# Altium footprint library TPI_time_timer.PcbLib: 36 footprints (part 1 of 3)
Each footprint in its own frame and in the unit in brackets; x right, y up, seen from the top. Pads: shape width x height; smd on the part's side, far side on the other; paste and mask are expansions set on the pad; w line width, h text height; cw(c..) or ccw(c..) is an arc to the next point about the centre after c.
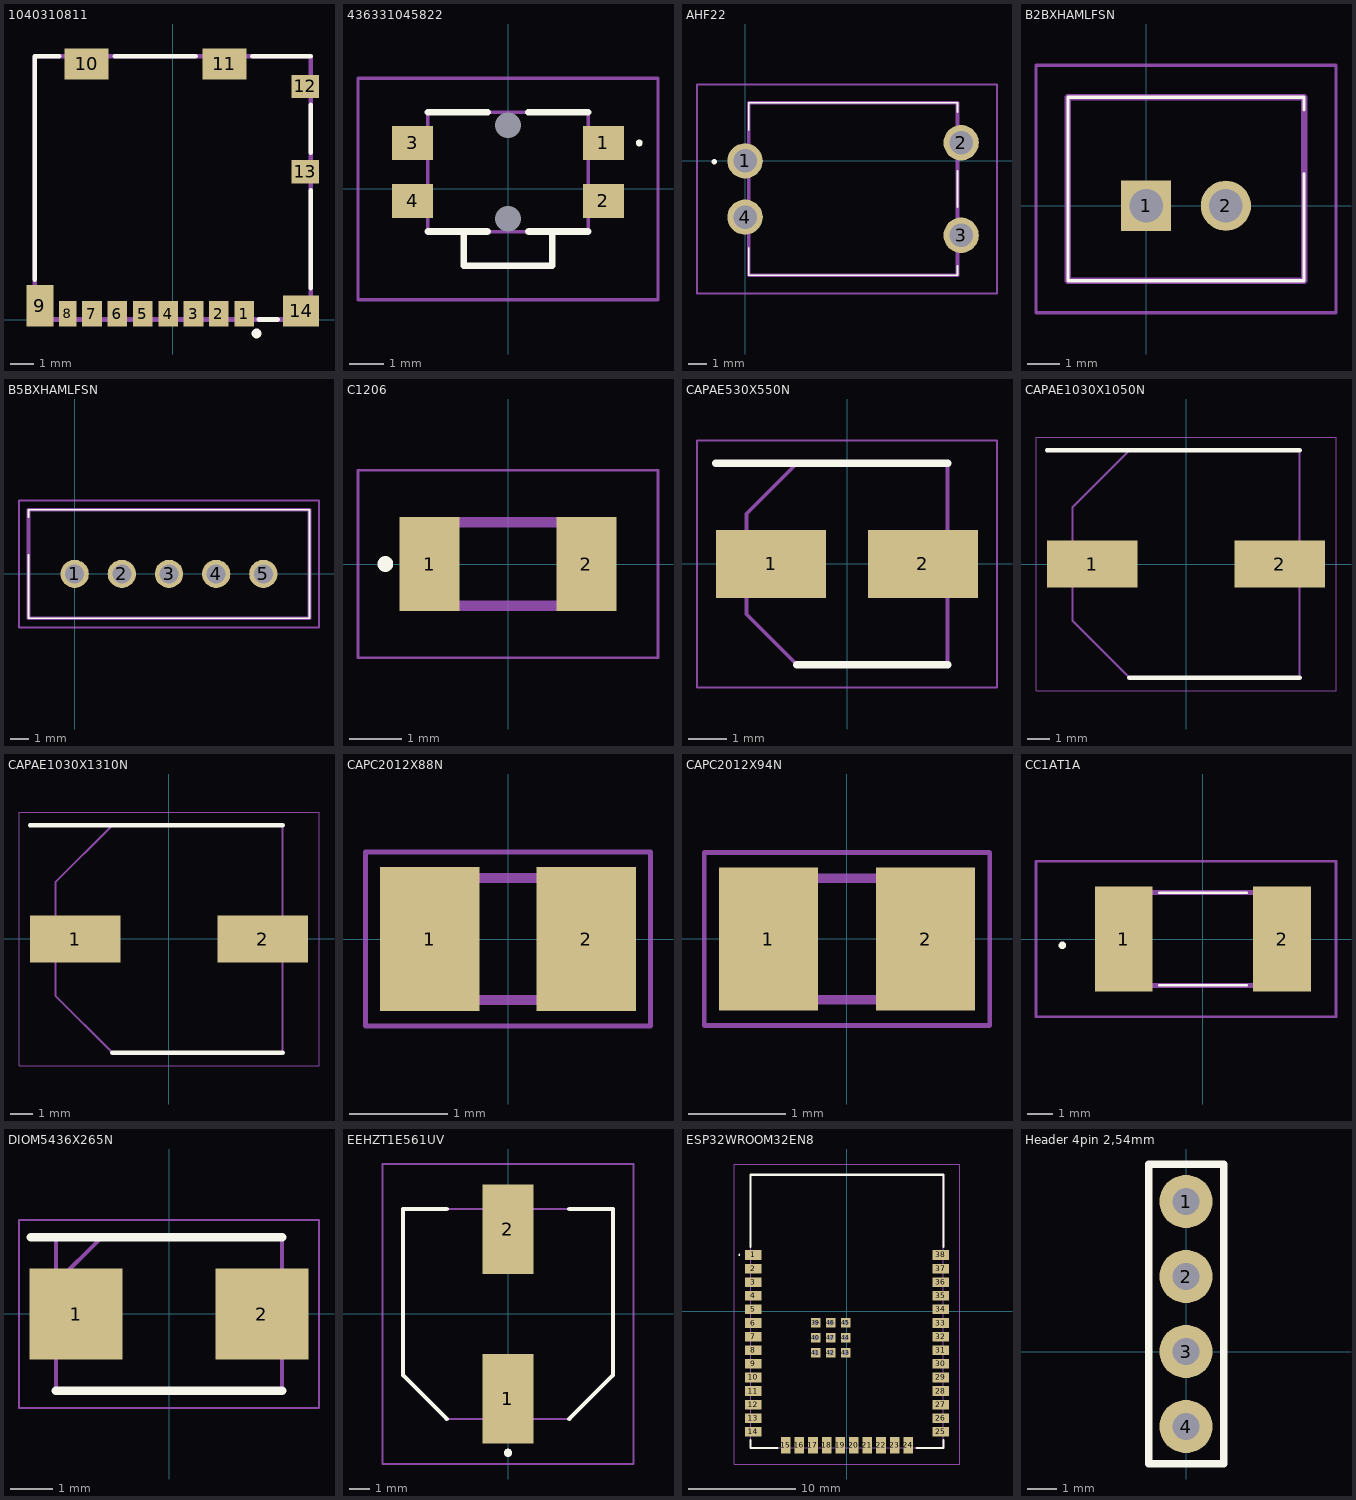
[diagram p0: the footprints below, top view; thin cyan lines are the x and y axes]

## 1040310811 [mm]
pads (14):
  rect 0.85x1.1 smd: 1(3.105,0.25) 2(2.005,0.25) 3(0.905,0.25) 4(-0.195,0.25) 5(-1.295,0.25) 6(-2.395,0.25) 7(-3.495,0.25)
  rect 0.75x1.1 smd: 8(-4.545,0.25)
  rect 1.17x1.8 smd: 9(-5.755,0.6)
  rect 1.9x1.35 smd: 10(-3.73,11.075) 11(2.24,11.075)
  rect 1.2x1 smd: 12(5.74,10.1) 13(5.74,6.4)
  rect 1.55x1.35 smd: 14(5.565,0.375)
Top Overlay:
  circle w0.2: c3.634,-0.605 r0.113
  lines w0.2: -5.975,1.721 -5.975,11.4 -4.914,11.4 ; -2.5,11.4 1,11.4 ; 3.455,11.4 5.975,11.4 ; 3.739,0 4.56,0 ; 5.975,1.367 5.975,5.601 ; 5.975,7.216 5.975,9.297
Mechanical 13:
  lines w0.2: -5.975,0 5.975,0 5.975,11.4 -5.975,11.4 -5.975,0
3D body "104031-0811.stp": height 1.45, standoff 0, extent -5.975,-0.043 5.975,11.357

## 436331045822 [mm]
pads (6):
  rect 1.2x1 smd: 1(2.8,1.35) 2(2.8,-0.35) 3(-2.8,1.35) 4(-2.8,-0.35)
  round 0.375 hole 0.75 unplated: MH1(0,1.875) MH2(0,-0.875)
Top Overlay:
  lines w0.1: 3.8,1.35 cw(c3.85,1.35) 3.9,1.35 cw(c3.85,1.35) 3.8,1.35
  lines w0.2: -2.35,-1.25 -0.6,-1.25 ; -2.35,2.25 -0.6,2.25 ; -1.3,-1.25 -1.3,-2.25 1.3,-2.25 1.3,-1.25 ; 0.6,-1.25 2.35,-1.25 ; 0.6,2.25 2.35,2.25
Mechanical 13:
  lines w0.1: -1.3,-1.25 -1.3,-2.25 1.3,-2.25 1.3,-1.25 ; -2.35,-1.25 -2.35,2.25 2.35,2.25 2.35,-1.25 -2.35,-1.25
Mechanical 15:
  lines w0.1: -4.4,-3.25 -4.4,3.25 4.4,3.25 4.4,-3.25 -4.4,-3.25
3D body "436331045822.stp": height 1.65, standoff -0.5, extent -3.2,-2.369 3.2,2.131

## AHF22 [mm]
pads (4):
  round 1.95 hole 1.3: 1(0,0) 2(11.9,1) 3(11.9,-4.1) 4(0,-3.1)
Top Overlay:
  lines w0.1: 0.2,-6.3 11.7,-6.3 ; 0.2,-6.3 11.7,-6.3 ; 0.2,-6.3 0.2,-4.8 0.2,-6.3 ; 0.2,3.2 11.7,3.2 ; 0.2,3.2 11.7,3.2 ; 0.2,3.2 0.2,1.7 0.2,3.2 ; 11.7,-6.3 11.7,-5.8 11.7,-6.3 ; 11.7,3.2 11.7,2.7 11.7,3.2 ; 11.7,-2.55 11.7,-0.55 11.7,-2.55
  lines w0.2: -1.75,-0.05 cw(c-1.7,-0.05) -1.65,-0.05 ; -1.75,-0.05 ccw(c-1.7,-0.05) -1.65,-0.05 ; -1.75,-0.05 cw(c-1.7,-0.05) -1.65,-0.05
Mechanical 13:
  lines w0.2: 0.2,-6.3 0.2,3.2 11.7,3.2 11.7,-6.3 0.2,-6.3
Mechanical 15:
  lines w0.1: -2.65,-7.3 -2.65,4.2 13.875,4.2 13.875,-7.3 -2.65,-7.3
3D body "AHF22.stp": height 9.4, standoff -5, extent -0.55,-6.3 12.45,3.2

## B2BXHAMLFSN [mm]
pads (3):
  rect 1.575x1.575 hole 1.05: 1(0,0)
  round 1.575 hole 1.05: 2(2.5,0)
  round 0 all layers, no hole: MH1(4.1,2)
Top Overlay:
  lines w0.1: -2.45,-2.35 4.95,-2.35 ; -2.45,-2.35 4.95,-2.35 ; -2.45,-2.35 -2.45,3.4 ; -2.45,-2.35 -2.45,3.4 ; -2.45,3.4 4.95,3.4 ; -2.45,3.4 4.95,3.4 ; 4.95,-2.35 4.95,1 4.95,-2.35 ; 4.95,3.4 4.95,3 4.95,3.4
Mechanical 13:
  lines w0.2: -2.45,-2.35 -2.45,3.4 4.95,3.4 4.95,-2.35 -2.45,-2.35
Mechanical 15:
  lines w0.1: -3.45,-3.35 -3.45,4.4 5.95,4.4 5.95,-3.35 -3.45,-3.35
3D body "B2B-XH-AM_LF__SN_.stp": height 6.9, standoff -3.5, extent -2.45,-2.355 4.95,3.395

## B5BXHAMLFSN [mm]
pads (6):
  round 1.5 hole 1: 1(0,0) 2(2.5,0) 3(5,0) 4(7.5,0) 5(10,0)
  round 0 all layers, no hole: MH1(-1.6,2)
Top Overlay:
  lines w0.1: -2.45,1 -2.45,-2.35 12.45,-2.35 12.45,3.4 -2.45,3.4 -2.45,3
Mechanical 13:
  lines w0.2: -2.45,-2.35 12.45,-2.35 12.45,3.4 -2.45,3.4 -2.45,-2.35
Mechanical 15:
  lines w0.1: -2.95,-2.85 12.95,-2.85 12.95,3.9 -2.95,3.9 -2.95,-2.85
3D body "B5B-XH-AM__LF__SN_.stp": height 6.92, standoff -3.48, extent -2.45,-2.355 12.45,3.395

## C1206 [mm]
pads (2):
  rect 1.15x1.8 smd: 1(-1.5,0) 2(1.5,0)
Top Overlay:
  circle w0.2: c-2.35,0 r0.05
Mechanical 13:
  lines w0.2: -1.6,-0.8 -1.6,0.8 1.6,0.8 1.6,-0.8 -1.6,-0.8
Mechanical 15:
  lines w0.05: -2.875,-1.8 -2.875,1.8 2.875,1.8 2.875,-1.8 -2.875,-1.8
3D body "C1206C106K4RACTU.stp": height 1.8, standoff 0, extent -1.7,-0.9 1.7,0.9

## CAPAE530X550N [mm]
pads (2):
  rect 2.9x1.8 smd: 1(-2,0) 2(2,0)
Top Overlay:
  lines w0.2: -3.45,2.65 2.65,2.65 ; -1.325,-2.65 2.65,-2.65
Mechanical 13:
  lines w0.1: -2.65,-1.325 -2.65,1.325 -1.325,2.65 2.65,2.65 2.65,-2.65 -1.325,-2.65 -2.65,-1.325
Mechanical 15:
  lines w0.05: -3.95,-3.25 3.95,-3.25 3.95,3.25 -3.95,3.25 -3.95,-3.25
3D body "865230542002.stp": height 5.5, standoff 0, extent -2.75,-2.75 2.75,2.75

## CAPAE1030X1050N [mm]
pads (2):
  rect 4.1x2.15 smd: 1(-4.25,0) 2(4.25,0)
Top Overlay:
  lines w0.2: -6.3,5.15 5.15,5.15 ; -2.575,-5.15 5.15,-5.15
Mechanical 13:
  lines w0.1: -5.15,-2.575 -5.15,2.575 -2.575,5.15 5.15,5.15 5.15,-5.15 -2.575,-5.15 -5.15,-2.575
Mechanical 15:
  lines w0.05: -6.8,-5.75 6.8,-5.75 6.8,5.75 -6.8,5.75 -6.8,-5.75
3D body "A785MN826M1JLAS030.stp": height 10.5, standoff 0, extent -5.6,-5.25 5.6,5.25

## CAPAE1030X1310N [mm]
pads (2):
  rect 4.1x2.15 smd: 1(-4.25,0) 2(4.25,0)
Top Overlay:
  lines w0.2: -6.3,5.15 5.15,5.15 ; -2.575,-5.15 5.15,-5.15
Mechanical 13:
  lines w0.1: -5.15,-2.575 -5.15,2.575 -2.575,5.15 5.15,5.15 5.15,-5.15 -2.575,-5.15 -5.15,-2.575
Mechanical 15:
  lines w0.05: -6.8,-5.75 6.8,-5.75 6.8,5.75 -6.8,5.75 -6.8,-5.75
3D body "PCM1J101MCL1GS.stp": height 13.1, standoff 0, extent -5.6,-5.25 5.6,5.25

## CAPC2012X88N [mm]
pads (2):
  rect 1.02x1.47 smd: 1(-0.8,0) 2(0.8,0)
Mechanical 13:
  lines w0.1: -1,-0.625 1,-0.625 1,0.625 -1,0.625 -1,-0.625
Mechanical 15:
  lines w0.05: -1.46,-0.89 1.46,-0.89 1.46,0.89 -1.46,0.89 -1.46,-0.89
3D body "C0805C399D5GAC7800.stp": height 0.88, standoff 0, extent -1.1,-0.73 1.1,0.72

## CAPC2012X94N [mm]
pads (2):
  rect 1.02x1.47 smd: 1(-0.81,0) 2(0.81,0)
Mechanical 13:
  lines w0.1: -1.005,-0.625 1.005,-0.625 1.005,0.625 -1.005,0.625 -1.005,-0.625
Mechanical 15:
  lines w0.05: -1.47,-0.89 1.47,-0.89 1.47,0.89 -1.47,0.89 -1.47,-0.89
3D body "08053C104MAT2A.stp": height 0.94, standoff 0, extent -1.005,-0.625 1.005,0.625

## CC1AT1A [mm]
pads (2):
  rect 2.3x4.2 smd: 1(-3.15,0) 2(3.15,0)
Top Overlay:
  lines w0.1: -1.75,-1.85 1.75,-1.85 -1.75,-1.85 ; -1.75,1.85 1.75,1.85 -1.75,1.85
  lines w0.2: -5.6,-0.3 ccw(c-5.6,-0.25) -5.6,-0.2 ; -5.6,-0.3 cw(c-5.6,-0.25) -5.6,-0.2 ; -5.6,-0.3 ccw(c-5.6,-0.25) -5.6,-0.2
Mechanical 13:
  lines w0.2: -4,-1.85 4,-1.85 4,1.85 -4,1.85 -4,-1.85
Mechanical 15:
  lines w0.1: -6.65,-3.1 5.3,-3.1 5.3,3.1 -6.65,3.1 -6.65,-3.1
3D body "CC1V-T1A-1.8432MHZ-10PF-500PPM-TC-QC.stp": height 1.75, standoff 0, extent -4,-1.85 4,1.85

## DIOM5436X265N [mm]
pads (2):
  rect 2.2x2.15 smd: 1(-2.2,0) 2(2.2,0)
Top Overlay:
  lines w0.2: -3.275,1.812 2.675,1.812 ; -2.675,-1.812 2.675,-1.812
Mechanical 13:
  lines w0.1: -2.675,0.738 -1.6,1.812 ; -2.675,-1.812 -2.675,1.812 2.675,1.812 2.675,-1.812 -2.675,-1.812
Mechanical 15:
  lines w0.05: -3.55,-2.225 -3.55,2.225 3.55,2.225 3.55,-2.225 -3.55,-2.225
3D body "STPS2L40U.stp": height 2.65, standoff 0, extent -2.675,-1.813 2.675,1.813

## EEHZT1E561UV [mm]
pads (2):
  rect 2.5x4.4 smd: 1(0,-4.15) 2(0,4.15)
Top Overlay:
  lines w0.2: -3,-5.15 -5.15,-3 -5.15,5.15 -3,5.15 ; 3,-5.15 5.15,-3 5.15,5.15 3,5.15 ; -0.1,-6.8 cw(c0,-6.8) 0.1,-6.8 cw(c0,-6.8) -0.1,-6.8
Mechanical 13:
  lines w0.1: -5.15,-3 -3,-5.15 ; -5.15,-3 -5.15,5.15 5.15,5.15 5.15,-3 3,-5.15 -3,-5.15 ; -5.15,-3 -3,-5.15
Mechanical 15:
  lines w0.1: -6.15,-7.35 -6.15,7.35 6.15,7.35 6.15,-7.35 -6.15,-7.35
3D body "EEH-ZA1K470V.stp": height 10.5, standoff 0, extent -5.15,-5.85 5.15,5.85

## ESP32WROOM32EN8 [mm]
pads (47):
  rect 1.5x0.9 smd: 1(-8.75,5.26) 2(-8.75,3.99) 3(-8.75,2.72) 4(-8.75,1.45) 5(-8.75,0.18) 6(-8.75,-1.09) 7(-8.75,-2.36) 8(-8.75,-3.63) 9(-8.75,-4.9) 10(-8.75,-6.17) 11(-8.75,-7.44) 12(-8.75,-8.71) 13(-8.75,-9.98) 14(-8.75,-11.25) 25(8.75,-11.25) 26(8.75,-9.98) 27(8.75,-8.71) 28(8.75,-7.44) 29(8.75,-6.17) 30(8.75,-4.9) 31(8.75,-3.63) 32(8.75,-2.36) 33(8.75,-1.09) 34(8.75,0.18) 35(8.75,1.45) 36(8.75,2.72) 37(8.75,3.99) 38(8.75,5.26)
  rect 0.9x1.5 smd: 15(-5.715,-12.5) 16(-4.445,-12.5) 17(-3.175,-12.5) 18(-1.905,-12.5) 19(-0.635,-12.5) 20(0.635,-12.5) 21(1.905,-12.5) 22(3.175,-12.5) 23(4.445,-12.5) 24(5.715,-12.5)
  rect 0.9x0.9 hole 0.5 unplated: 39(-2.9,-1.06) 40(-2.9,-2.46) 41(-2.9,-3.86) 42(-1.5,-3.86) 43(-0.1,-3.86) 44(-0.1,-2.46) 45(-0.1,-1.06) 46(-1.5,-1.06) 47(-1.5,-2.46)
Top Overlay:
  lines w0.1: -10.1,5.26 cw(c-10.05,5.26) -10,5.26 cw(c-10.05,5.26) -10.1,5.26
  lines w0.2: -9,-12 -9,-12.75 -6.5,-12.75 ; -9,6 -9,12.75 9,12.75 9,6 ; 6.5,-12.75 9,-12.75 9,-12
Mechanical 13:
  lines w0.1: -9,-12.75 -9,12.75 9,12.75 9,-12.75 -9,-12.75
Mechanical 15:
  lines w0.1: -10.5,-14.25 -10.5,13.75 10.5,13.75 10.5,-14.25 -10.5,-14.25
3D body "ESP32-WROOM-32E-N8.stp": height 3.13, standoff 0.02, extent -9,-12.75 9,12.75

## Header 4pin 2,54mm [mm]
pads (4):
  round 1.8 hole 0.9: 1(0,5.08) 2(0,2.54) 3(0,0) 4(0,-2.54)
Top Overlay:
  lines w0.254: -1.27,-3.81 1.27,-3.81 1.27,6.35 -1.27,6.35 -1.27,-3.81
3D body: height 6.9, standoff -3, extent -0.254,-0.254 0.254,0.254
3D body: height 6.9, standoff -3, extent -0.254,2.286 0.254,2.794
3D body: height 6.9, standoff -3, extent -0.254,4.826 0.254,5.334
3D body: height 1.8, standoff 0, extent -1.27,-3.81 1.27,6.35
3D body: height 6.9, standoff -3, extent -0.254,-2.794 0.254,-2.286